# Altium footprint library 研发中心PCB库文件.PcbLib: 333 footprints (part 10 of 21)
Each footprint in its own frame and in the unit in brackets; x right, y up, seen from the top. Pads: shape width x height; smd on the part's side, far side on the other; paste and mask are expansions set on the pad; w line width, h text height; cw(c..) or ccw(c..) is an arc to the next point about the centre after c.
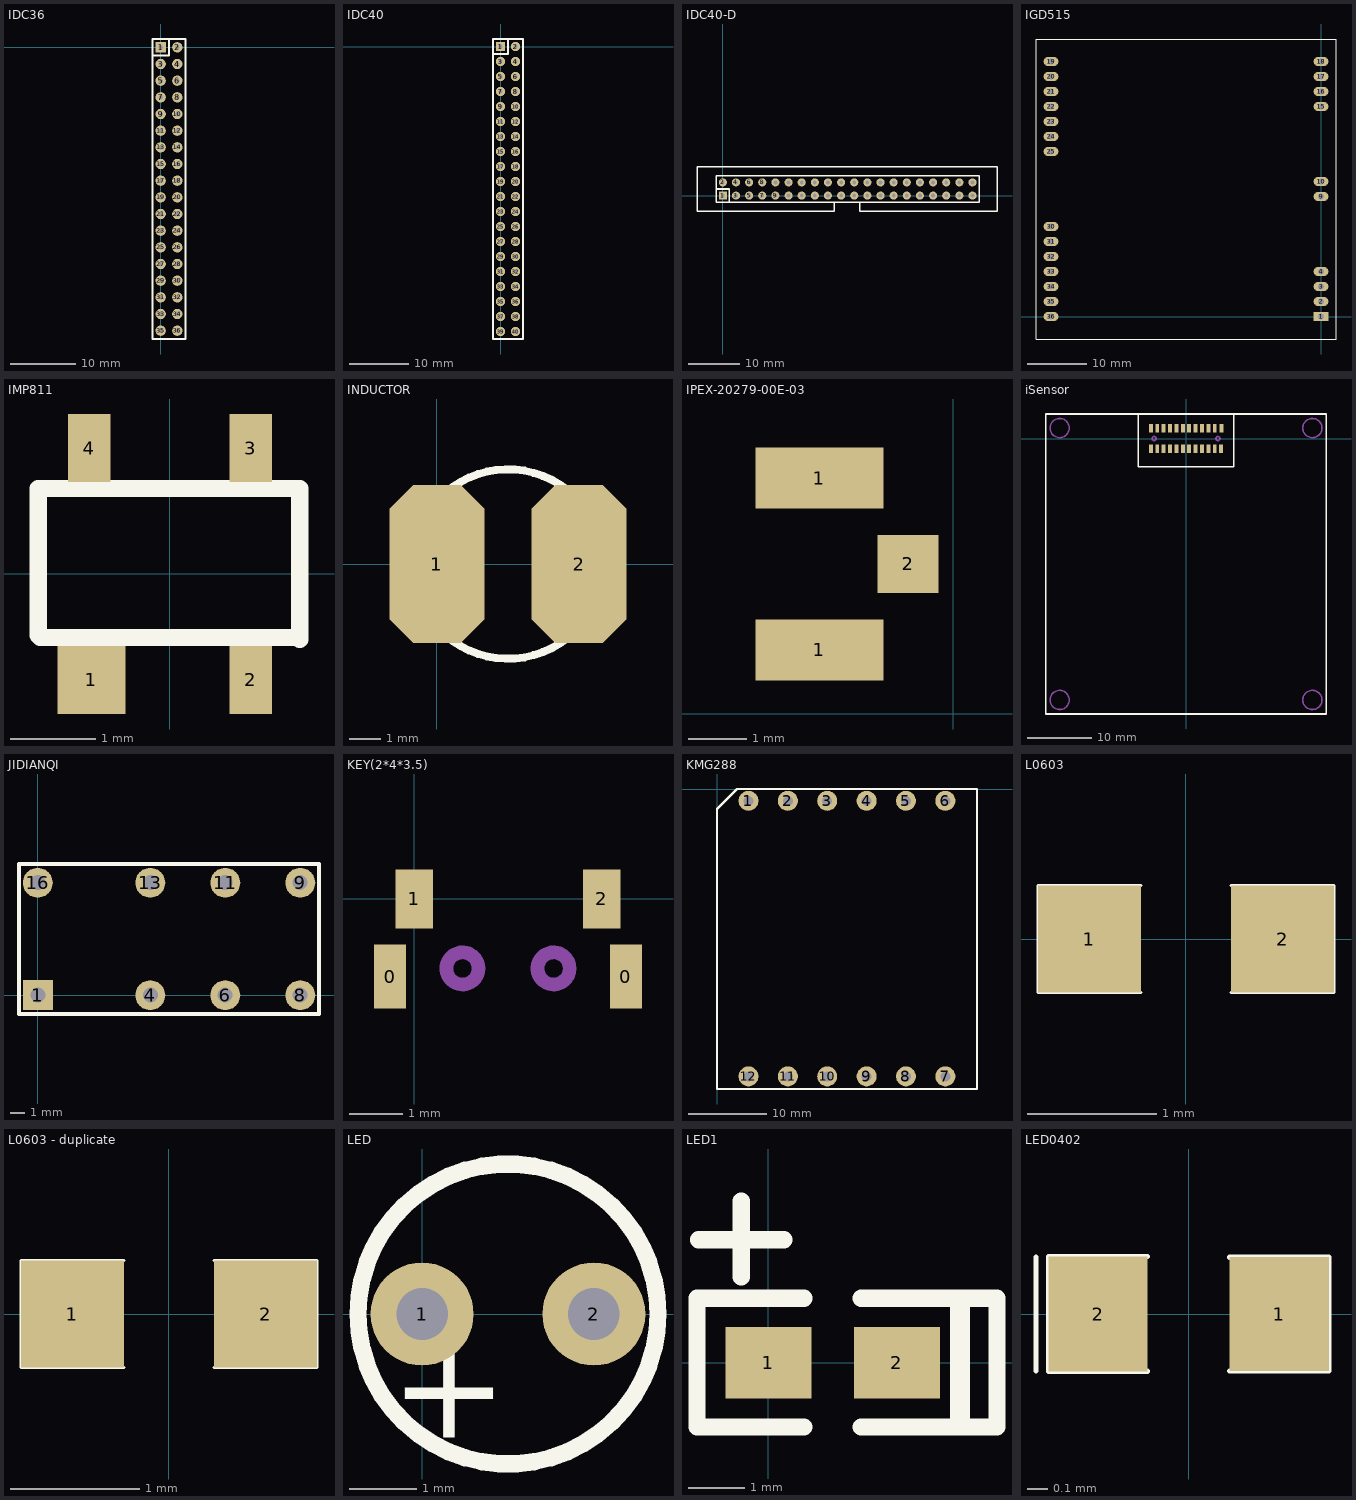
[diagram p9: the footprints below, top view; thin cyan lines are the x and y axes]

## IDC36 [mil]
pads (36):
  rect 62x62 hole 28: 1(0,0)
  round 62 hole 28: 2(100,0) 3(0,-100) 4(100,-100) 5(0,-200) 6(100,-200) 7(0,-300) 8(100,-300) 9(0,-400) 10(100,-400) 11(0,-500) 12(100,-500) 13(0,-600) 14(100,-600) 15(0,-700) 16(100,-700) 17(0,-800) 18(100,-800) 19(0,-900) 20(100,-900) 21(0,-1000) 22(100,-1000) 23(0,-1100) 24(100,-1100) 25(0,-1200) 26(100,-1200) 27(0,-1300) 28(100,-1300) 29(0,-1400) 30(100,-1400) 31(0,-1500) 32(100,-1500) 33(0,-1600) 34(100,-1600) 35(0,-1700) 36(100,-1700)
Top Overlay:
  lines w12: -50,-50 50,-50 50,50 ; -50,-1750 -50,50 150,50 150,-1750 -50,-1750

## IDC40 [mil]
pads (40):
  rect 62x62 hole 28: 1(0,0)
  round 62 hole 28: 2(100,0) 3(0,-100) 4(100,-100) 5(0,-200) 6(100,-200) 7(0,-300) 8(100,-300) 9(0,-400) 10(100,-400) 11(0,-500) 12(100,-500) 13(0,-600) 14(100,-600) 15(0,-700) 16(100,-700) 17(0,-800) 18(100,-800) 19(0,-900) 20(100,-900) 21(0,-1000) 22(100,-1000) 23(0,-1100) 24(100,-1100) 25(0,-1200) 26(100,-1200) 27(0,-1300) 28(100,-1300) 29(0,-1400) 30(100,-1400) 31(0,-1500) 32(100,-1500) 33(0,-1600) 34(100,-1600) 35(0,-1700) 36(100,-1700) 37(0,-1800) 38(100,-1800) 39(0,-1900) 40(100,-1900)
Top Overlay:
  lines w12: -50,-50 50,-50 50,50 ; -50,-1950 150,-1950 150,50 -50,50 -50,-1950

## IDC40-D [mil]
pads (40):
  rect 62x62 hole 28: 1(0,0)
  round 62 hole 28: 2(0,100) 3(100,0) 4(100,100) 5(200,0) 6(200,100) 7(300,0) 8(300,100) 9(400,0) 10(400,100) 11(500,0) 12(500,100) 13(600,0) 14(600,100) 15(700,0) 16(700,100) 17(800,0) 18(800,100) 19(900,0) 20(900,100) 21(1000,0) 22(1000,100) 23(1100,0) 24(1100,100) 25(1200,0) 26(1200,100) 27(1300,0) 28(1300,100) 29(1400,0) 30(1400,100) 31(1500,0) 32(1500,100) 33(1600,0) 34(1600,100) 35(1700,0) 36(1700,100) 37(1800,0) 38(1800,100) 39(1900,0) 40(1900,100)
Top Overlay:
  lines w10: 846.46,-50 846.46,-118.11 -196.85,-118.11 -196.85,218.11 2086.61,218.11 2086.61,-118.11 1043.31,-118.11 1043.31,-50 ; 897.64,-50 1034.25,-50
  lines w12: -50,50 50,50 50,-50 ; -50,-50 1950,-50 1950,150 -50,150 -50,-50

## IGD515 [mm]
pads (24):
  rect 2.5x1.5 hole 1: 1(0,0)
  oval 2.5x1.5 hole 1: 2(0,2.54) 3(0,5.08) 4(0,7.62) 9(0,20.32) 10(0,22.86) 15(0,35.56) 16(0,38.1) 17(0,40.64) 18(0,43.18) 19(-45.72,43.18) 20(-45.72,40.64) 21(-45.72,38.1) 22(-45.72,35.56) 23(-45.72,33.02) 24(-45.72,30.48) 25(-45.72,27.94) 30(-45.72,15.24) 31(-45.72,12.7) 32(-45.72,10.16) 33(-45.72,7.62) 34(-45.72,5.08) 35(-45.72,2.54) 36(-45.72,0)
Top Overlay:
  lines w0.203: -48.26,-3.81 2.54,-3.81 2.54,46.99 -48.26,46.99 -48.26,-3.81

## IMP811 [mm]
pads (4):
  rect 0.8x0.8 smd: 1(-0.923,-1.25)
  rect 0.5x0.8 smd: 2(0.952,-1.25) 3(0.952,1.475) 4(-0.948,1.475)
Top Overlay:
  lines w0.203: 1.502,-0.75 -1.523,-0.75 -1.548,-0.725 -1.548,1 1.527,1 1.527,-0.775

## INDUCTOR [mm]
pads (2):
  oct 3x5 smd: 1(0,0) 2(4.5,0)
Top Overlay:
  circle w0.254: c2.25,0 r3

## IPEX-20279-00E-03 [mm]
pads (3):
  rect 2.2x1.05 smd: 1(-2.3,1.1) 1(-2.3,4.05)
  rect 1.05x1 smd: 2(-0.775,2.575)

## iSensor [mil]
pads (24):
  rect 24x54 smd: 1(-218.35,63.03) 2(-218.35,-63.03) 3(-178.98,63.03) 4(-178.98,-63.03) 5(-139.61,63.03) 6(-139.61,-63.03) 7(-100.24,63.03) 8(-100.24,-63.03) 9(-60.87,63.03) 10(-60.87,-63.03) 11(-21.5,63.03) 12(-21.5,-63.03) 13(17.87,63.03) 14(17.87,-63.03) 15(57.24,63.03) 16(57.24,-63.03) 17(96.61,63.03) 18(96.61,-63.03) 19(135.98,63.03) 20(135.98,-63.03) 21(175.35,63.03) 22(175.35,-63.03) 23(218.35,63.03) 24(214.72,-63.03)
Top Overlay:
  lines w10: -808.35,151.26 -807.96,150.87 ; -297.09,151.26 -297.09,-173.54 293.46,-173.54 293.46,151.26 ; -867.96,-1699.13 -867.96,151.26 864.33,151.26 864.33,-1699.13 -867.96,-1699.13
Mechanical 1:
  circle w10: c-198.67,0 r12.5
  circle w10: c777.71,-1612.52 r59.06
  circle w10: c777.71,64.65 r59.06
  circle w10: c-781.34,64.65 r59.06
  circle w10: c-781.34,-1612.52 r59.06
  circle w10: c195.04,0 r12.5

## JIDIANQI [mil]
pads (8):
  rect 80x80 hole 40: 1(0,0)
  round 80 hole 40: 4(300,0) 6(500,0) 8(700,0) 9(700,300) 11(500,300) 13(300,300) 16(0,300)
Top Overlay:
  lines w10: -50,-50 -50,350 750,350 750,-50 -50,-50

## KEY(2*4*3.5) [mm]
height 3.5
pads (4):
  rect 0.6x1.2 smd: 0(-0.45,-1.45) 0(3.95,-1.45)
  rect 0.7x1.1 smd: 1(0,0) 2(3.5,0)
Mechanical 1:
  circle w0.254: c2.6,-1.3 r0.3
  circle w0.254: c0.9,-1.3 r0.3

## KMG288 [mm]
pads (12):
  round 2.54 hole 1.27: 1(4,-1.5) 2(9,-1.5) 3(14,-1.5) 4(19,-1.5) 5(24,-1.5) 6(29,-1.5) 7(29,-36.5) 8(24,-36.5) 9(19,-36.5) 10(14,-36.5) 11(9,-36.5) 12(4,-36.5)
Top Overlay:
  lines w0.254: 4.953,0 2.54,0 ; 0,-2.54 0,-38.1 33.02,-38.1 33.02,0 2.54,0 ; 0,-2.54 2.54,0 ; 0,-2.54 2.54,0

## L0603 [mm]
pads (2):
  rect 0.8x0.83 smd: 1(-0.75,0) 2(0.75,0)
Top Overlay:
  lines w0.025: -0.35,-0.415 -1.15,-0.415 -1.15,0.415 -0.35,0.415 ; 0.35,-0.415 1.15,-0.415 1.15,0.415 0.35,0.415

## L0603 - duplicate [mm]
pads (2):
  rect 0.8x0.83 smd: 1(-0.75,0) 2(0.75,0)
Top Overlay:
  lines w0.025: -0.35,-0.415 -1.15,-0.415 -1.15,0.415 -0.35,0.415 ; 0.35,-0.415 1.15,-0.415 1.15,0.415 0.35,0.415

## LED [mil]
pads (2):
  round 60 hole 30: 1(0,0) 2(100,0)
Top Overlay:
  circle w10: c50,0 r87.32
  text "+" at 50.08,-20.42 h60

## LED1 [mil]
pads (2):
  rect 60x50 smd: 1(0,0) 2(90,0)
Top Overlay:
  lines w12: -49,86 11,86 ; -19,60 -19,113 ; 25,-45 -50,-45 -50,45 25,45 ; 65,-45 140,-45 160,-45 160,45 140,45 65,45 ; 133,-45 133,45 ; 135,-45 135,45

## LED0402 [mm]
pads (2):
  rect 0.48x0.55 smd: 1(0.437,0)
  rect 0.48x0.555 smd: 2(-0.437,0)
Top Overlay:
  lines w0.025: -0.737,-0.275 -0.737,0.275 ; -0.198,-0.277 -0.677,-0.277 -0.677,0.278 -0.198,0.278 ; 0.198,-0.275 0.677,-0.275 0.677,0.275 0.198,0.275